# Altium footprint library ADS8681IPW.PcbLib: 3 footprints
Each footprint in its own frame and in the unit in brackets; x right, y up, seen from the top. Pads: shape width x height; smd on the part's side, far side on the other; paste and mask are expansions set on the pad; w line width, h text height; cw(c..) or ccw(c..) is an arc to the next point about the centre after c.
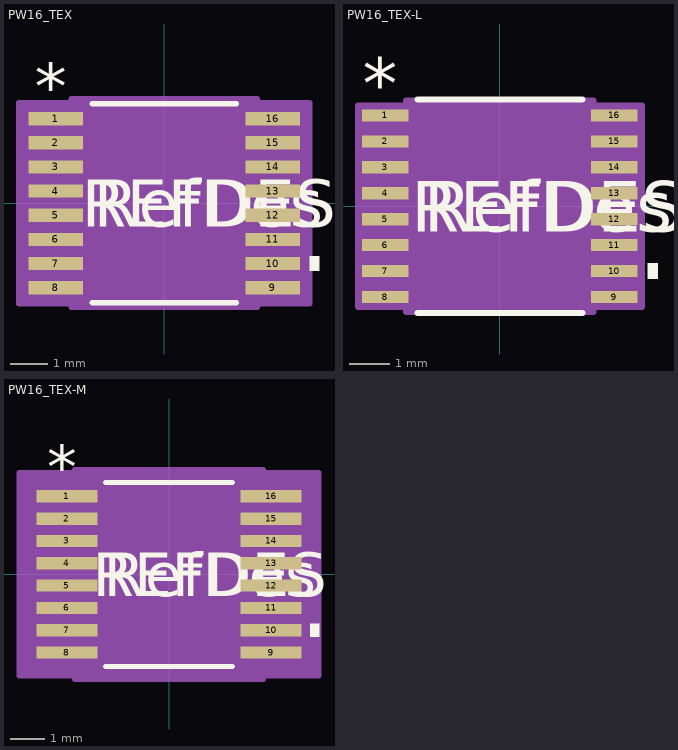
[diagram p0: the footprints below, top view; thin cyan lines are the x and y axes]

## PW16_TEX [mil]
pads (16):
  rect 58x14 smd paste+0 mask+0: 1(-115,89.57) 2(-115,63.98) 3(-115,38.39) 4(-115,12.8) 5(-115,-12.8) 6(-115,-38.39) 7(-115,-63.98) 8(-115,-89.57) 9(115,-89.57) 10(115,-63.98) 11(115,-38.39) 12(115,-12.8) 13(115,12.8) 14(115,38.39) 15(115,63.98) 16(115,89.57)
Top Overlay:
  region: 154,-56.48 164,-56.48 164,-71.48 154,-71.48
  lines w6: -76.42,-105.5 76.42,-105.5 ; -76.42,105.5 76.42,105.5
  text "REFDES" at -87.5,-25 h50
  text "*" at -137.5,98.57 h50
  text "RefDes" at -75,-25 h50
Mechanical 13:
  lines w0: -12,100.5 ccw(c0,100.5) 12,100.5
  lines w1: -130,-95.57 -130,-83.57 -88.5,-83.57 -88.5,-95.57 -130,-95.57 ; -130,-69.98 -130,-57.98 -88.5,-57.98 -88.5,-69.98 -130,-69.98 ; -130,-44.39 -130,-32.39 -88.5,-32.39 -88.5,-44.39 -130,-44.39 ; -130,-18.8 -130,-6.8 -88.5,-6.8 -88.5,-18.8 -130,-18.8 ; -130,6.8 -130,18.8 -88.5,18.8 -88.5,6.8 -130,6.8 ; -130,32.39 -130,44.39 -88.5,44.39 -88.5,32.39 -130,32.39 ; -130,57.98 -130,69.98 -88.5,69.98 -88.5,57.98 -130,57.98 ; -130,83.57 -130,95.57 -88.5,95.57 -88.5,83.57 -130,83.57 ; -88.5,-100.5 88.5,-100.5 88.5,100.5 -88.5,100.5 -88.5,-100.5 ; 88.5,-95.57 88.5,-83.57 130,-83.57 130,-95.57 88.5,-95.57 ; 88.5,-69.98 88.5,-57.98 130,-57.98 130,-69.98 88.5,-69.98 ; 88.5,-44.39 88.5,-32.39 130,-32.39 130,-44.39 88.5,-44.39 ; 88.5,-18.8 88.5,-6.8 130,-6.8 130,-18.8 88.5,-18.8 ; 88.5,6.8 88.5,18.8 130,18.8 130,6.8 88.5,6.8 ; 88.5,32.39 88.5,44.39 130,44.39 130,32.39 88.5,32.39 ; 88.5,57.98 88.5,69.98 130,69.98 130,57.98 88.5,57.98 ; 88.5,83.57 88.5,95.57 130,95.57 130,83.57 88.5,83.57
  text "*" at -86,47.5 h50
  text "RefDes2" at -87.5,-25 h50
Mechanical 15:
  region: -98.5,-106.57 -154,-106.57 -154,106.57 -98.5,106.57 -98.5,110.5 98.5,110.5 98.5,106.57 154,106.57 154,-106.57 98.5,-106.57 98.5,-110.5 -98.5,-110.5
  lines w6: -154,-106.57 -154,106.57 -98.5,106.57 -98.5,110.5 98.5,110.5 98.5,106.57 154,106.57 154,-106.57 98.5,-106.57 98.5,-110.5 -98.5,-110.5 -98.5,-106.57 -154,-106.57
3D body "PW16_TEX.step": height 47.09, standoff 0, extent -130,-100.51 130,100.51

## PW16_TEX-L [mil]
pads (16):
  rect 46x12 smd paste+0 mask+0: 1(-113,89.57) 2(-113,63.98) 3(-113,38.39) 4(-113,12.8) 5(-113,-12.8) 6(-113,-38.39) 7(-113,-63.98) 8(-113,-89.57) 9(113,-89.57) 10(113,-63.98) 11(113,-38.39) 12(113,-12.8) 13(113,12.8) 14(113,38.39) 15(113,63.98) 16(113,89.57)
Top Overlay:
  region: 146,-56.48 156,-56.48 156,-71.48 146,-71.48
  lines w6: -81.46,-105.5 81.46,-105.5 ; -81.46,105.5 81.46,105.5
  text "REFDES" at -87.5,-25 h50
  text "*" at -135.5,96.57 h50
  text "RefDes" at -75,-25 h50
Mechanical 13:
  lines w0: -12,100.5 ccw(c0,100.5) 12,100.5
  lines w1: -130,-95.57 -130,-83.57 -88.5,-83.57 -88.5,-95.57 -130,-95.57 ; -130,-69.98 -130,-57.98 -88.5,-57.98 -88.5,-69.98 -130,-69.98 ; -130,-44.39 -130,-32.39 -88.5,-32.39 -88.5,-44.39 -130,-44.39 ; -130,-18.8 -130,-6.8 -88.5,-6.8 -88.5,-18.8 -130,-18.8 ; -130,6.8 -130,18.8 -88.5,18.8 -88.5,6.8 -130,6.8 ; -130,32.39 -130,44.39 -88.5,44.39 -88.5,32.39 -130,32.39 ; -130,57.98 -130,69.98 -88.5,69.98 -88.5,57.98 -130,57.98 ; -130,83.57 -130,95.57 -88.5,95.57 -88.5,83.57 -130,83.57 ; -88.5,-100.5 88.5,-100.5 88.5,100.5 -88.5,100.5 -88.5,-100.5 ; 88.5,-95.57 88.5,-83.57 130,-83.57 130,-95.57 88.5,-95.57 ; 88.5,-69.98 88.5,-57.98 130,-57.98 130,-69.98 88.5,-69.98 ; 88.5,-44.39 88.5,-32.39 130,-32.39 130,-44.39 88.5,-44.39 ; 88.5,-18.8 88.5,-6.8 130,-6.8 130,-18.8 88.5,-18.8 ; 88.5,6.8 88.5,18.8 130,18.8 130,6.8 88.5,6.8 ; 88.5,32.39 88.5,44.39 130,44.39 130,32.39 88.5,32.39 ; 88.5,57.98 88.5,69.98 130,69.98 130,57.98 88.5,57.98 ; 88.5,83.57 88.5,95.57 130,95.57 130,83.57 88.5,83.57
  text "*" at -86,47.5 h50
  text "RefDes2" at -87.5,-25 h50
Mechanical 15:
  region: -92.5,-99.57 -140,-99.57 -140,99.57 -92.5,99.57 -92.5,104.5 92.5,104.5 92.5,99.57 140,99.57 140,-99.57 92.5,-99.57 92.5,-104.5 -92.5,-104.5
  lines w6: -140,-99.57 -140,99.57 -92.5,99.57 -92.5,104.5 92.5,104.5 92.5,99.57 140,99.57 140,-99.57 92.5,-99.57 92.5,-104.5 -92.5,-104.5 -92.5,-99.57 -140,-99.57
3D body "PW16_TEX.step": height 47.09, standoff 0, extent -130,-100.51 130,100.51

## PW16_TEX-M [mil]
pads (16):
  rect 70x14 smd paste+0 mask+0: 1(-117,89.57) 2(-117,63.98) 3(-117,38.39) 4(-117,12.8) 5(-117,-12.8) 6(-117,-38.39) 7(-117,-63.98) 8(-117,-89.57) 9(117,-89.57) 10(117,-63.98) 11(117,-38.39) 12(117,-12.8) 13(117,12.8) 14(117,38.39) 15(117,63.98) 16(117,89.57)
Top Overlay:
  region: 162,-56.48 172,-56.48 172,-71.48 162,-71.48
  lines w6: -72.42,-105.5 72.42,-105.5 ; -72.42,105.5 72.42,105.5
  text "REFDES" at -87.5,-25 h50
  text "*" at -139.5,98.57 h50
  text "RefDes" at -75,-25 h50
Mechanical 13:
  lines w0: -12,100.5 ccw(c0,100.5) 12,100.5
  lines w1: -130,-95.57 -130,-83.57 -88.5,-83.57 -88.5,-95.57 -130,-95.57 ; -130,-69.98 -130,-57.98 -88.5,-57.98 -88.5,-69.98 -130,-69.98 ; -130,-44.39 -130,-32.39 -88.5,-32.39 -88.5,-44.39 -130,-44.39 ; -130,-18.8 -130,-6.8 -88.5,-6.8 -88.5,-18.8 -130,-18.8 ; -130,6.8 -130,18.8 -88.5,18.8 -88.5,6.8 -130,6.8 ; -130,32.39 -130,44.39 -88.5,44.39 -88.5,32.39 -130,32.39 ; -130,57.98 -130,69.98 -88.5,69.98 -88.5,57.98 -130,57.98 ; -130,83.57 -130,95.57 -88.5,95.57 -88.5,83.57 -130,83.57 ; -88.5,-100.5 88.5,-100.5 88.5,100.5 -88.5,100.5 -88.5,-100.5 ; 88.5,-95.57 88.5,-83.57 130,-83.57 130,-95.57 88.5,-95.57 ; 88.5,-69.98 88.5,-57.98 130,-57.98 130,-69.98 88.5,-69.98 ; 88.5,-44.39 88.5,-32.39 130,-32.39 130,-44.39 88.5,-44.39 ; 88.5,-18.8 88.5,-6.8 130,-6.8 130,-18.8 88.5,-18.8 ; 88.5,6.8 88.5,18.8 130,18.8 130,6.8 88.5,6.8 ; 88.5,32.39 88.5,44.39 130,44.39 130,32.39 88.5,32.39 ; 88.5,57.98 88.5,69.98 130,69.98 130,57.98 88.5,57.98 ; 88.5,83.57 88.5,95.57 130,95.57 130,83.57 88.5,83.57
  text "*" at -86,47.5 h50
  text "RefDes2" at -87.5,-25 h50
Mechanical 15:
  region: -108.5,-116.57 -172,-116.57 -172,116.57 -108.5,116.57 -108.5,120.5 108.5,120.5 108.5,116.57 172,116.57 172,-116.57 108.5,-116.57 108.5,-120.5 -108.5,-120.5
  lines w6: -172,-116.57 -172,116.57 -108.5,116.57 -108.5,120.5 108.5,120.5 108.5,116.57 172,116.57 172,-116.57 108.5,-116.57 108.5,-120.5 -108.5,-120.5 -108.5,-116.57 -172,-116.57
3D body "PW16_TEX.step": height 47.09, standoff 0, extent -130,-100.51 130,100.51